# Altium schematic symbol library 电容.SchLib: 2 symbols
Pins are listed as number, name and electrical type; pins without a type are passive.

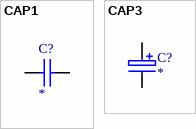
[diagram p0: symbols CAP1 to CAP3]

## CAP1
designator C?
footprint 0805 (Chip Resistor, 2-Leads, Body 2.0x1.3mm, IPC Medium Density)
footprint CAP2
footprint 0603
footprint 1206
footprint CAP4
pins: 1, 2

## CAP3
designator C?
footprint CA3216 (Molded Capacitor, 2-Leads, Body 3.3x1.7mm, IPC Medium Density)
footprint CC6032 (Molded Capacitor, 2-Leads, Body 6.1x3.3mm, IPC Medium Density)
footprint CD7343 (Molded Capacitor, 2-Leads, Body 7.4x4.3mm, IPC Medium Density)
footprint CAO1
footprint CAO2
footprint C18
footprint CT0804 (8mm×4mm,直插改表贴)
footprint C12
footprint C14
footprint C16
footprint C18
footprint C22
footprint CAO5
footprint CAO6
footprint CB3528 (Molded Capacitor, 2-Leads, Body 3.6x2.9mm, IPC Medium Density)
pins: 1, 2